# Altium schematic symbol library Sensors.SchLib: 1 symbol
Pins are listed as number, name and electrical type; pins without a type are passive.

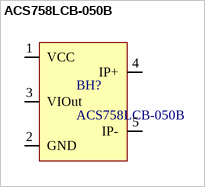
[diagram p0: symbol ACS758LCB-050B]

## ACS758LCB-050B
designator BH?
Датчик тока; ValueManufacturer: Allegro MicroSystems; ValueManufacturerPartNumber: ACS758LCB-050B-PFF-T; ValueType: Датчик тока
footprint ACS758
pins: 1 VCC, 2 GND, 3 VIOut, 4 IP+, 5 IP-